# Altium schematic symbol library Molex Saber Connector.SchLib: 1 symbol
Pins are listed as number, name and electrical type; pins without a type are passive.

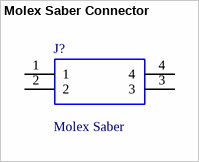
[diagram p0: symbol Molex Saber Connector]

## Molex Saber Connector
designator J?, comment Molex Saber
CONN HDR 2POS 7.50MM PCB SLDR; Manufacturer_Part_Number: 0431600102; Geometry.Height: 14.86mm; Manufacturer_Name: Molex; RS Part Number: *; RS Price/Stock: *; Mouser Part Number: *; Mouser Price/Stock: *; Datasheet Link: https://www.molex.com/pdm_docs/sd/431600102_sd.pdf
footprint 0431600102
pins: 1, 2, 3, 4